# Altium footprint library con-hirose.PCBLIB: 38 footprints (part 1 of 3)
Each footprint in its own frame and in the unit in brackets; x right, y up, seen from the top. Pads: shape width x height; smd on the part's side, far side on the other; paste and mask are expansions set on the pad; w line width, h text height; cw(c..) or ccw(c..) is an arc to the next point about the centre after c.
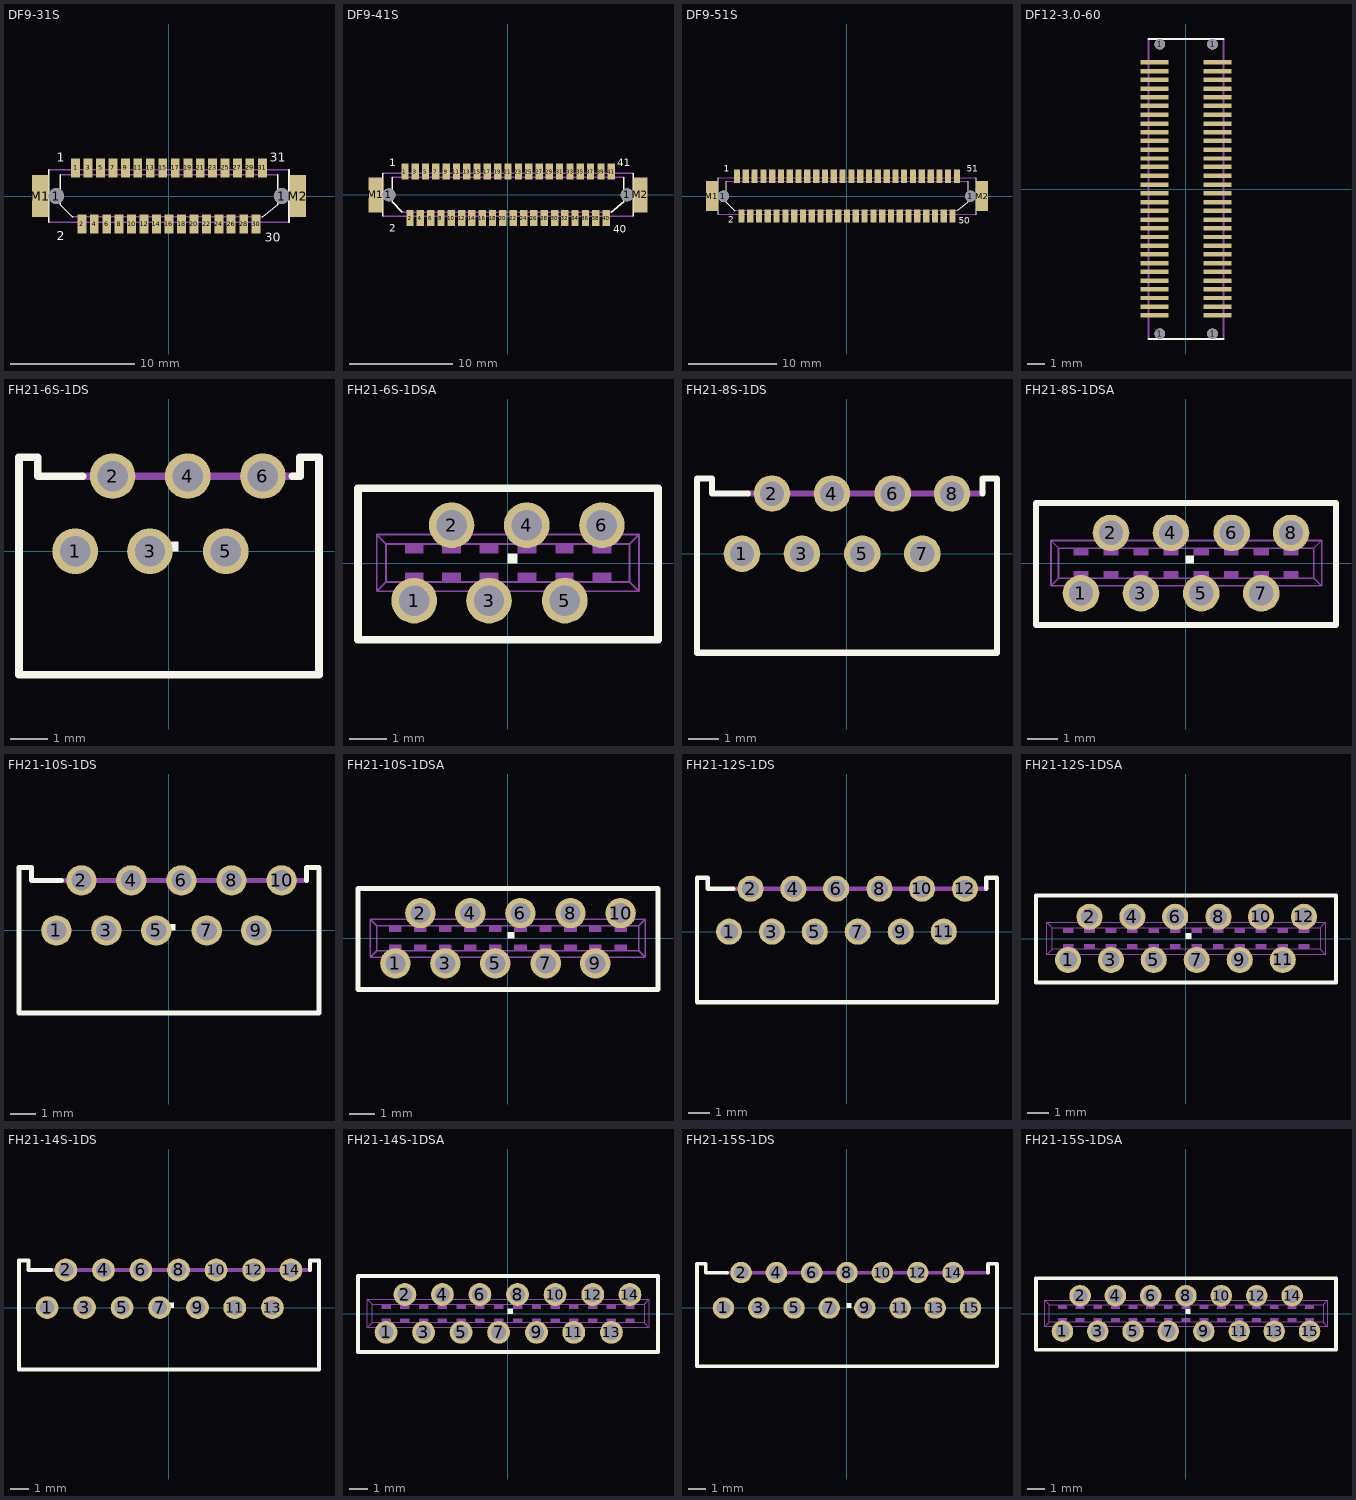
[diagram p0: the footprints below, top view; thin cyan lines are the x and y axes]

## DF9-31S [mil]
pads (35):
  round 50 hole 50: 1(-356.3,0) 1(357,0)
  rect 28x60 smd: 1(-295.28,89) 2(-275.59,-88.58) 3(-255.91,89) 4(-236.22,-88.58) 5(-216.54,89) 6(-196.85,-88.58) 7(-177.17,89) 8(-157.48,-88.58) 9(-137.8,89) 10(-118.11,-88.58) 11(-98.43,89) 12(-78.74,-88.58) 13(-59.06,89) 14(-39.37,-88.58) 15(-19.68,89) 16(0,-88.58) 17(20,89) 18(40,-88.58) 19(60,89) 20(79,-88.58) 21(99,89) 22(119,-88.58) 23(138,89) 24(158,-88.58) 25(178,89) 26(197,-88.58) 27(217,89) 28(237,-88.58) 29(256,89) 30(276,-88.58) 31(296,89)
  rect 52x134 smd: M1(-407.48,0) M2(408,0)
Top Overlay:
  lines w5: -379.92,-82.68 -379.92,83 ; -344.49,67 -344.49,-26.77 -305.12,-66.14 ; 296,-66.14 345,-26.77 345,67 ; 380,-82.68 380,83
  text "1" at -354.33,99 h49.6
  text "2" at -354.33,-149.61 h49.6
  text "30" at 304,-153.54 h49.6
  text "31" at 319,99 h49.6
Mechanical 2:
  text ">NAME" at -450,-62.5 h49.6
Mechanical 4:
  text ">VALUE" at 500,-62.5 h49.6
Mechanical 16:
  lines w5: -379.92,-82.68 380,-82.68 ; -379.92,83 380,83 ; -344.49,67 345,67 ; -305.12,-66.14 296,-66.14

## DF9-41S [mil]
pads (45):
  round 50 hole 50: 1(-454.72,0) 1(455,0)
  rect 28x60 smd: 1(-393.7,89) 2(-374.02,-88.58) 3(-354.33,89) 4(-334.65,-88.58) 5(-314.96,89) 6(-295.28,-88.58) 7(-275.59,89) 8(-255.91,-88.58) 9(-236.22,89) 10(-216.54,-88.58) 11(-196.85,89) 12(-177.17,-88.58) 13(-157.48,89) 14(-137.8,-88.58) 15(-118.11,89) 16(-98.43,-88.58) 17(-78.74,89) 18(-59.06,-88.58) 19(-39.37,89) 20(-19.68,-88.58) 21(0,89) 22(20,-88.58) 23(40,89) 24(60,-88.58) 25(79,89) 26(99,-88.58) 27(119,89) 28(138,-88.58) 29(158,89) 30(178,-88.58) 31(197,89) 32(217,-88.58) 33(237,89) 34(256,-88.58) 35(276,89) 36(296,-88.58) 37(315,89) 38(335,-88.58) 39(355,89) 40(375,-88.58) 41(394,89)
  rect 52x134 smd: M1(-505.91,0) M2(506,0)
Top Overlay:
  lines w5: -478.35,-82.68 -478.35,83 ; -442.91,67 -442.91,-26.77 -403.54,-66.14 ; 394,-66.14 443,-26.77 443,67 ; 479,-82.68 479,83
  text "1" at -452.76,99 h49.6
  text "2" at -452.76,-149.61 h49.6
  text "40" at 402,-153.54 h49.6
  text "41" at 418,99 h49.6
Mechanical 2:
  text ">NAME" at -550,-62.5 h49.6
Mechanical 4:
  text ">VALUE" at 600,-62.5 h49.6
Mechanical 16:
  lines w5: -478.35,-82.68 479,-82.68 ; -478.35,83 479,83 ; -442.91,67 443,67 ; -403.54,-66.14 394,-66.14

## DF9-51S [mil]
pads (55):
  round 50 hole 50: 1(-553.15,0) 1(554,0)
  rect 28x60 smd: 1(-492.13,89) 2(-472.44,-88.58) 3(-452.76,89) 4(-433.07,-88.58) 5(-413.39,89) 6(-393.7,-88.58) 7(-374.02,89) 8(-354.33,-88.58) 9(-334.65,89) 10(-314.96,-88.58) 11(-295.28,89) 12(-275.59,-88.58) 13(-255.91,89) 14(-236.22,-88.58) 15(-216.54,89) 16(-196.85,-88.58) 17(-177.17,89) 18(-157.48,-88.58) 19(-137.8,89) 20(-118.11,-88.58) 21(-98.43,89) 22(-78.74,-88.58) 23(-59.06,89) 24(-39.37,-88.58) 25(-19.68,89) 26(0,-88.58) 27(20,89) 28(40,-88.58) 29(60,89) 30(79,-88.58) 31(99,89) 32(119,-88.58) 33(138,89) 34(158,-88.58) 35(178,89) 36(197,-88.58) 37(217,89) 38(237,-88.58) 39(256,89) 40(276,-88.58) 41(296,89) 42(315,-88.58) 43(335,89) 44(355,-88.58) 45(375,89) 46(394,-88.58) 47(414,89) 48(434,-88.58) 49(453,89) 50(473,-88.58) 51(493,89)
  rect 52x134 smd: M1(-604.33,0) M2(605,0)
Top Overlay:
  lines w5: -576.77,-82.68 -576.77,83 ; -541.34,67 -541.34,-26.77 -501.97,-66.14 ; 493,-66.14 542,-26.77 542,67 ; 577,-82.68 577,83
  text "1" at -551.18,99 h49.6
  text "2" at -531.5,-129.92 h49.6
  text "50" at 500,-133.86 h49.6
  text "51" at 536,99 h49.6
Mechanical 2:
  text ">NAME" at -648.43,-62.5 h49.6
Mechanical 4:
  text ">VALUE" at 699,-62.5 h49.6
Mechanical 16:
  lines w5: -576.77,-82.68 577,-82.68 ; -576.77,83 577,83 ; -541.34,67 542,67 ; -501.97,-66.14 493,-66.14

## DF12-3.0-60 [mil]
pads (64):
  round 24 hole 24: 1(-59.06,-326.77) 1(-59.06,327) 1(60,-326.77) 1(60,327)
  rect 63x10 smd: 1(71,286) 2(71,266) 3(71,247) 4(71,227) 5(71,207) 6(71,188) 7(71,168) 8(71,148) 9(71,128) 10(71,109) 11(71,89) 12(71,69) 13(71,50) 14(71,30) 15(71,10) 16(71,-9.84) 17(71,-29.53) 18(71,-49.21) 19(71,-68.9) 20(71,-88.58) 21(71,-108.27) 22(71,-127.95) 23(71,-147.64) 24(71,-167.32) 25(71,-187.01) 26(71,-206.69) 27(71,-226.38) 28(71,-246.06) 29(71,-265.75) 30(71,-285.43) 31(-70.87,-285.43) 32(-70.87,-265.75) 33(-70.87,-246.06) 34(-70.87,-226.38) 35(-70.87,-206.69) 36(-70.87,-187.01) 37(-70.87,-167.32) 38(-70.87,-147.64) 39(-70.87,-127.95) 40(-70.87,-108.27) 41(-70.87,-88.58) 42(-70.87,-68.9) 43(-70.87,-49.21) 44(-70.87,-29.53) 45(-70.87,-9.84) 46(-70.87,10) 47(-70.87,30) 48(-70.87,50) 49(-70.87,69) 50(-70.87,89) 51(-70.87,109) 52(-70.87,128) 53(-70.87,148) 54(-70.87,168) 55(-70.87,188) 56(-70.87,207) 57(-70.87,227) 58(-70.87,247) 59(-70.87,266) 60(-70.87,286)
Top Overlay:
  lines w5: -84.65,-338.58 85,-338.58 ; -84.65,339 85,339
Mechanical 2:
  text ">NAME" at -125,-175 h108.5
Mechanical 4:
  text ">VALUE" at 200,-200 h108.5
Mechanical 16:
  lines w5: -84.65,-338.58 -84.65,339 ; 85,-338.58 85,339

## FH21-6S-1DS [mil]
pads (6):
  round 48 hole 32: 1(-98.43,0) 2(-59.06,79) 3(-19.68,0) 4(20,79) 5(60,0) 6(99,79)
Top Overlay:
  region: 0,0 10,0 10,10 0,10
  lines w8: -90.55,79 -137.8,79 -137.8,99 -157.48,99 -157.48,-129.92 158,-129.92 158,99 138,99 138,79 130,79
Mechanical 2:
  text ">NAME" at -136.69,122 h49.6
Mechanical 4:
  text ">VALUE" at -138.82,-197.87 h49.6
Mechanical 16:
  lines w8: -90.55,79 138,79

## FH21-6S-1DSA [mil]
pads (6):
  round 48 hole 32: 1(-98.43,-39.37) 2(-59.06,40) 3(-19.68,-39.37) 4(20,40) 5(60,-39.37) 6(99,40)
Top Overlay:
  region: 0,0 10,0 10,10 0,10
  lines w8: -157.48,-80.71 158,-80.71 158,79 -157.48,79 -157.48,-80.71
Mechanical 2:
  text ">NAME" at -144.69,100 h49.6
Mechanical 4:
  text ">VALUE" at -144.69,-137.5 h49.6
Mechanical 16:
  rectangle: -108.27,-19.68 -88.58,-9.84
  rectangle: -108.27,10 -88.58,20
  rectangle: -68.9,10 -49.21,20
  rectangle: -68.9,-19.68 -49.21,-9.84
  rectangle: -29.53,10 -9.84,20
  rectangle: -29.53,-19.68 -9.84,-9.84
  rectangle: 10,10 30,20
  rectangle: 10,-19.68 30,-9.84
  rectangle: 50,10 69,20
  rectangle: 50,-19.68 69,-9.84
  rectangle: 89,10 109,20
  rectangle: 89,-19.68 109,-9.84
  lines w2: -137.8,-29.53 138,-29.53 ; -137.8,-29.53 -137.8,30 ; -137.8,-29.53 -127.95,-19.68 ; -137.8,30 138,30 ; -137.8,30 -127.95,20 ; -127.95,-19.68 128,-19.68 ; -127.95,-19.68 -127.95,20 ; -127.95,20 128,20 ; 128,-19.68 128,20 ; 128,-19.68 138,-29.53 ; 128,20 138,30 ; 138,-29.53 138,30

## FH21-8S-1DS [mil]
pads (8):
  round 48 hole 32: 1(-137.8,0) 2(-98.43,79) 3(-59.06,0) 4(-19.68,79) 5(20,0) 6(60,79) 7(99,0) 8(138,79)
Top Overlay:
  region: 0,0 10,0 10,10 0,10
  lines w8: -129.92,79 -177.17,79 -177.17,99 -196.85,99 -196.85,-129.92 197,-129.92 197,99 178,99 178,79
Mechanical 2:
  text ">NAME" at -176.06,122 h49.6
Mechanical 4:
  text ">VALUE" at -178.19,-197.87 h49.6
Mechanical 16:
  lines w8: -129.92,79 178,79

## FH21-8S-1DSA [mil]
pads (8):
  round 48 hole 32: 1(-137.8,-39.37) 2(-98.43,40) 3(-59.06,-39.37) 4(-19.68,40) 5(20,-39.37) 6(60,40) 7(99,-39.37) 8(138,40)
Top Overlay:
  region: 0,0 10,0 10,10 0,10
  lines w8: -196.85,-80.71 197,-80.71 197,79 -196.85,79 -196.85,-80.71
Mechanical 2:
  text ">NAME" at -184.06,100 h49.6
Mechanical 4:
  text ">VALUE" at -184.06,-137.5 h49.6
Mechanical 16:
  rectangle: -147.64,-19.68 -127.95,-9.84
  rectangle: -147.64,10 -127.95,20
  rectangle: -108.27,10 -88.58,20
  rectangle: -108.27,-19.68 -88.58,-9.84
  rectangle: -68.9,10 -49.21,20
  rectangle: -68.9,-19.68 -49.21,-9.84
  rectangle: -29.53,10 -9.84,20
  rectangle: -29.53,-19.68 -9.84,-9.84
  rectangle: 10,10 30,20
  rectangle: 10,-19.68 30,-9.84
  rectangle: 50,10 69,20
  rectangle: 50,-19.68 69,-9.84
  rectangle: 89,10 109,20
  rectangle: 128,10 148,20
  rectangle: 89,-19.68 109,-9.84
  rectangle: 128,-19.68 148,-9.84
  lines w2: -177.17,-29.53 178,-29.53 ; -177.17,-29.53 -177.17,30 ; -177.17,-29.53 -167.32,-19.68 ; -177.17,30 178,30 ; -177.17,30 -167.32,20 ; -167.32,-19.68 168,-19.68 ; -167.32,-19.68 -167.32,20 ; -167.32,20 168,20 ; 168,-19.68 168,20 ; 168,-19.68 178,-29.53 ; 168,20 178,30 ; 178,-29.53 178,30

## FH21-10S-1DS [mil]
pads (10):
  round 48 hole 32: 1(-177.17,0) 2(-137.8,79) 3(-98.43,0) 4(-59.06,79) 5(-19.68,0) 6(20,79) 7(60,0) 8(99,79) 9(138,0) 10(178,79)
Top Overlay:
  region: 0,0 10,0 10,10 0,10
  lines w8: -169.29,79 -216.54,79 -216.54,99 -236.22,99 -236.22,-129.92 237,-129.92 237,99 217,99 217,79
Mechanical 2:
  text ">NAME" at -215.43,122 h49.6
Mechanical 4:
  text ">VALUE" at -217.56,-197.87 h49.6
Mechanical 16:
  lines w8: -169.29,79 217,79

## FH21-10S-1DSA [mil]
pads (10):
  round 48 hole 32: 1(-177.17,-39.37) 2(-137.8,40) 3(-98.43,-39.37) 4(-59.06,40) 5(-19.68,-39.37) 6(20,40) 7(60,-39.37) 8(99,40) 9(138,-39.37) 10(178,40)
Top Overlay:
  region: 0,0 10,0 10,10 0,10
  lines w8: -236.22,-80.71 237,-80.71 237,79 -236.22,79 -236.22,-80.71
Mechanical 2:
  text ">NAME" at -223.43,100 h49.6
Mechanical 4:
  text ">VALUE" at -223.43,-137.5 h49.6
Mechanical 16:
  rectangle: -187.01,-19.68 -167.32,-9.84
  rectangle: -187.01,10 -167.32,20
  rectangle: -147.64,10 -127.95,20
  rectangle: -147.64,-19.68 -127.95,-9.84
  rectangle: -108.27,10 -88.58,20
  rectangle: -108.27,-19.68 -88.58,-9.84
  rectangle: -68.9,10 -49.21,20
  rectangle: -68.9,-19.68 -49.21,-9.84
  rectangle: -29.53,10 -9.84,20
  rectangle: -29.53,-19.68 -9.84,-9.84
  rectangle: 10,10 30,20
  rectangle: 10,-19.68 30,-9.84
  rectangle: 50,10 69,20
  rectangle: 89,10 109,20
  rectangle: 128,10 148,20
  rectangle: 168,10 188,20
  rectangle: 50,-19.68 69,-9.84
  rectangle: 89,-19.68 109,-9.84
  rectangle: 128,-19.68 148,-9.84
  rectangle: 168,-19.68 188,-9.84
  lines w2: -216.54,-29.53 217,-29.53 ; -216.54,-29.53 -216.54,30 ; -216.54,-29.53 -206.69,-19.68 ; -216.54,30 217,30 ; -216.54,30 -206.69,20 ; -206.69,-19.68 207,-19.68 ; -206.69,-19.68 -206.69,20 ; -206.69,20 207,20 ; 207,-19.68 207,20 ; 207,-19.68 217,-29.53 ; 207,20 217,30 ; 217,-29.53 217,30

## FH21-12S-1DS [mil]
pads (12):
  round 48 hole 32: 1(-216.54,0) 2(-177.17,79) 3(-137.8,0) 4(-98.43,79) 5(-59.06,0) 6(-19.68,79) 7(20,0) 8(60,79) 9(99,0) 10(138,79) 11(178,0) 12(217,79)
Top Overlay:
  region: 0,0 10,0 10,10 0,10
  lines w8: -208.66,79 -255.91,79 -255.91,99 -275.59,99 -275.59,-129.92 276,-129.92 276,99 256,99 256,79
Mechanical 2:
  text ">NAME" at -254.8,122 h49.6
Mechanical 4:
  text ">VALUE" at -256.93,-197.87 h49.6
Mechanical 16:
  lines w8: -208.66,79 256,79

## FH21-12S-1DSA [mil]
pads (12):
  round 48 hole 32: 1(-216.54,-39.37) 2(-177.17,40) 3(-137.8,-39.37) 4(-98.43,40) 5(-59.06,-39.37) 6(-19.68,40) 7(20,-39.37) 8(60,40) 9(99,-39.37) 10(138,40) 11(178,-39.37) 12(217,40)
Top Overlay:
  region: 0,0 10,0 10,10 0,10
  lines w8: -275.59,-80.71 276,-80.71 276,79 -275.59,79 -275.59,-80.71
Mechanical 2:
  text ">NAME" at -262.8,100 h49.6
Mechanical 4:
  text ">VALUE" at -262.8,-137.5 h49.6
Mechanical 16:
  rectangle: -226.38,-19.68 -206.69,-9.84
  rectangle: -226.38,10 -206.69,20
  rectangle: -187.01,10 -167.32,20
  rectangle: -187.01,-19.68 -167.32,-9.84
  rectangle: -147.64,10 -127.95,20
  rectangle: -147.64,-19.68 -127.95,-9.84
  rectangle: -108.27,10 -88.58,20
  rectangle: -108.27,-19.68 -88.58,-9.84
  rectangle: -68.9,10 -49.21,20
  rectangle: -68.9,-19.68 -49.21,-9.84
  rectangle: -29.53,10 -9.84,20
  rectangle: -29.53,-19.68 -9.84,-9.84
  rectangle: 10,10 30,20
  rectangle: 50,10 69,20
  rectangle: 89,10 109,20
  rectangle: 128,10 148,20
  rectangle: 10,-19.68 30,-9.84
  rectangle: 50,-19.68 69,-9.84
  rectangle: 89,-19.68 109,-9.84
  rectangle: 128,-19.68 148,-9.84
  rectangle: 207,10 227,20
  rectangle: 168,10 188,20
  rectangle: 168,-19.68 188,-9.84
  rectangle: 207,-19.68 227,-9.84
  lines w2: -255.91,-29.53 256,-29.53 ; -255.91,-29.53 -255.91,30 ; -255.91,-29.53 -246.06,-19.68 ; -255.91,30 256,30 ; -255.91,30 -246.06,20 ; -246.06,-19.68 247,-19.68 ; -246.06,-19.68 -246.06,20 ; -246.06,20 247,20 ; 247,-19.68 247,20 ; 247,-19.68 256,-29.53 ; 247,20 256,30 ; 256,-29.53 256,30

## FH21-14S-1DS [mil]
pads (14):
  round 48 hole 32: 1(-255.91,0) 2(-216.54,79) 3(-177.17,0) 4(-137.8,79) 5(-98.43,0) 6(-59.06,79) 7(-19.68,0) 8(20,79) 9(60,0) 10(99,79) 11(138,0) 12(178,79) 13(217,0) 14(256,79)
Top Overlay:
  region: 0,0 10,0 10,10 0,10
  lines w8: -248.03,79 -295.28,79 -295.28,99 -314.96,99 -314.96,-129.92 315,-129.92 315,99 296,99 296,79
Mechanical 2:
  text ">NAME" at -294.17,122 h49.6
Mechanical 4:
  text ">VALUE" at -296.3,-197.87 h49.6
Mechanical 16:
  lines w8: -248.03,79 296,79

## FH21-14S-1DSA [mil]
pads (14):
  round 48 hole 32: 1(-255.91,-39.37) 2(-216.54,40) 3(-177.17,-39.37) 4(-137.8,40) 5(-98.43,-39.37) 6(-59.06,40) 7(-19.68,-39.37) 8(20,40) 9(60,-39.37) 10(99,40) 11(138,-39.37) 12(178,40) 13(217,-39.37) 14(256,40)
Top Overlay:
  region: 0,0 10,0 10,10 0,10
  lines w8: -314.96,-80.71 315,-80.71 315,79 -314.96,79 -314.96,-80.71
Mechanical 2:
  text ">NAME" at -302.17,100 h49.6
Mechanical 4:
  text ">VALUE" at -302.17,-137.5 h49.6
Mechanical 16:
  rectangle: -265.75,-19.68 -246.06,-9.84
  rectangle: -265.75,10 -246.06,20
  rectangle: -226.38,10 -206.69,20
  rectangle: -226.38,-19.68 -206.69,-9.84
  rectangle: -187.01,10 -167.32,20
  rectangle: -187.01,-19.68 -167.32,-9.84
  rectangle: -147.64,10 -127.95,20
  rectangle: -147.64,-19.68 -127.95,-9.84
  rectangle: -108.27,10 -88.58,20
  rectangle: -108.27,-19.68 -88.58,-9.84
  rectangle: -68.9,10 -49.21,20
  rectangle: -68.9,-19.68 -49.21,-9.84
  rectangle: -29.53,10 -9.84,20
  rectangle: 10,10 30,20
  rectangle: 50,10 69,20
  rectangle: 89,10 109,20
  rectangle: -29.53,-19.68 -9.84,-9.84
  rectangle: 10,-19.68 30,-9.84
  rectangle: 50,-19.68 69,-9.84
  rectangle: 89,-19.68 109,-9.84
  rectangle: 168,10 188,20
  rectangle: 128,10 148,20
  rectangle: 128,-19.68 148,-9.84
  rectangle: 168,-19.68 188,-9.84
  rectangle: 207,10 227,20
  rectangle: 247,10 266,20
  rectangle: 207,-19.68 227,-9.84
  rectangle: 247,-19.68 266,-9.84
  lines w2: -295.28,-29.53 296,-29.53 ; -295.28,-29.53 -295.28,30 ; -295.28,-29.53 -285.43,-19.68 ; -295.28,30 296,30 ; -295.28,30 -285.43,20 ; -285.43,-19.68 286,-19.68 ; -285.43,-19.68 -285.43,20 ; -285.43,20 286,20 ; 286,-19.68 286,20 ; 286,-19.68 296,-29.53 ; 286,20 296,30 ; 296,-29.53 296,30

## FH21-15S-1DS [mil]
pads (15):
  round 48 hole 32: 1(-275.59,0) 2(-236.22,79) 3(-196.85,0) 4(-157.48,79) 5(-118.11,0) 6(-78.74,79) 7(-39.37,0) 8(0,79) 9(40,0) 10(79,79) 11(119,0) 12(158,79) 13(197,0) 14(237,79) 15(276,0)
Top Overlay:
  region: 0,0 10,0 10,10 0,10
  lines w8: -267.72,79 -314.96,79 -314.96,99 -334.65,99 -334.65,-129.92 335,-129.92 335,99 315,99 315,79
Mechanical 2:
  text ">NAME" at -313.86,122 h49.6
Mechanical 4:
  text ">VALUE" at -315.98,-197.87 h49.6
Mechanical 16:
  lines w8: -267.72,79 315,79

## FH21-15S-1DSA [mil]
pads (15):
  round 48 hole 32: 1(-275.59,-39.37) 2(-236.22,40) 3(-196.85,-39.37) 4(-157.48,40) 5(-118.11,-39.37) 6(-78.74,40) 7(-39.37,-39.37) 8(0,40) 9(40,-39.37) 10(79,40) 11(119,-39.37) 12(158,40) 13(197,-39.37) 14(237,40) 15(276,-39.37)
Top Overlay:
  region: 0,0 10,0 10,10 0,10
  lines w8: -334.65,-80.71 335,-80.71 335,79 -334.65,79 -334.65,-80.71
Mechanical 2:
  text ">NAME" at -321.85,100 h49.6
Mechanical 4:
  text ">VALUE" at -321.85,-137.5 h49.6
Mechanical 16:
  rectangle: -285.43,-19.68 -265.75,-9.84
  rectangle: -285.43,10 -265.75,20
  rectangle: -246.06,10 -226.38,20
  rectangle: -246.06,-19.68 -226.38,-9.84
  rectangle: -206.69,10 -187.01,20
  rectangle: -206.69,-19.68 -187.01,-9.84
  rectangle: -167.32,10 -147.64,20
  rectangle: -167.32,-19.68 -147.64,-9.84
  rectangle: -127.95,10 -108.27,20
  rectangle: -127.95,-19.68 -108.27,-9.84
  rectangle: -88.58,10 -68.9,20
  rectangle: -88.58,-19.68 -68.9,-9.84
  rectangle: -49.21,10 -29.53,20
  rectangle: -9.84,10 10,20
  rectangle: 30,10 50,20
  rectangle: 69,10 89,20
  rectangle: -49.21,-19.68 -29.53,-9.84
  rectangle: -9.84,-19.68 10,-9.84
  rectangle: 30,-19.68 50,-9.84
  rectangle: 69,-19.68 89,-9.84
  rectangle: 148,10 168,20
  rectangle: 109,10 128,20
  rectangle: 109,-19.68 128,-9.84
  rectangle: 148,-19.68 168,-9.84
  rectangle: 188,10 207,20
  rectangle: 227,10 247,20
  rectangle: 188,-19.68 207,-9.84
  rectangle: 227,-19.68 247,-9.84
  rectangle: 266,10 286,20
  rectangle: 266,-19.68 286,-9.84
  lines w2: -314.96,-29.53 315,-29.53 ; -314.96,-29.53 -314.96,30 ; -314.96,-29.53 -305.12,-19.68 ; -314.96,30 315,30 ; -314.96,30 -305.12,20 ; -305.12,-19.68 306,-19.68 ; -305.12,-19.68 -305.12,20 ; -305.12,20 306,20 ; 306,-19.68 306,20 ; 306,-19.68 315,-29.53 ; 306,20 315,30 ; 315,-29.53 315,30